# Altium footprint library dipswitch.PcbLib: 1 footprints
Each footprint in its own frame and in the unit in brackets; x right, y up, seen from the top. Pads: shape width x height; smd on the part's side, far side on the other; paste and mask are expansions set on the pad; w line width, h text height; cw(c..) or ccw(c..) is an arc to the next point about the centre after c.
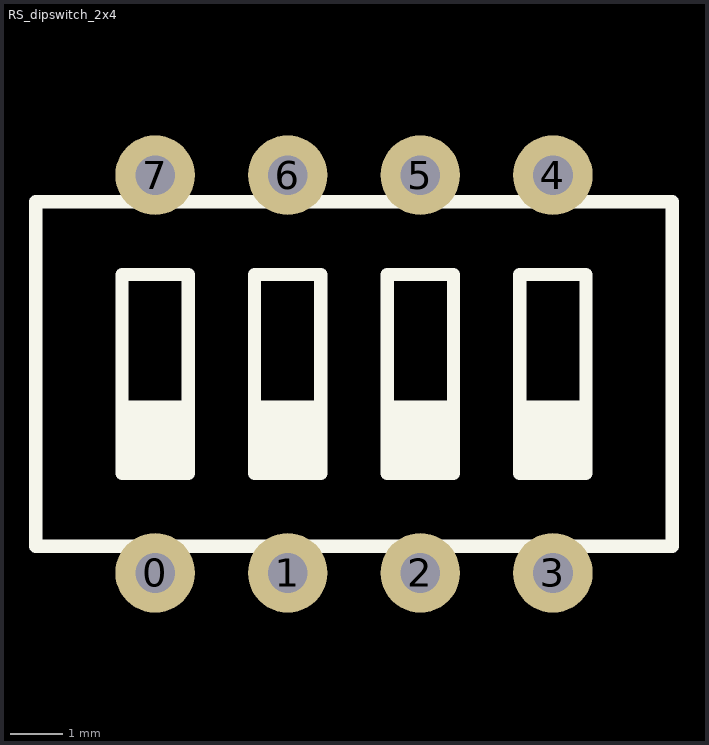
[diagram p0: the footprint, top view; thin cyan lines are the x and y axes]

## RS_dipswitch_2x4 [mil]
pads (8):
  round 60 hole 30: 0(300,350) 1(400,350) 2(500,350) 3(600,350) 4(600,650) 5(500,650) 6(400,650) 7(300,650)
Top Overlay:
  rectangle: 575,425 625,475
  rectangle: 475,425 525,475
  rectangle: 375,425 425,475
  rectangle: 280,425 325,475
  lines w10: 280,475 325,475 ; 375,475 425,475 ; 475,475 525,475 ; 575,475 625,475 ; 210,370 210,630 650,630 690,630 690,370 210,370 ; 275,425 275,575 325,575 325,425 275,425 ; 375,425 375,575 425,575 425,425 375,425 ; 475,425 475,575 525,575 525,425 475,425 ; 575,425 575,575 625,575 625,425 575,425